# EAGLE library part ARDUINO_ICSP_HDR (library ModernDeviceOldWorkingBest)
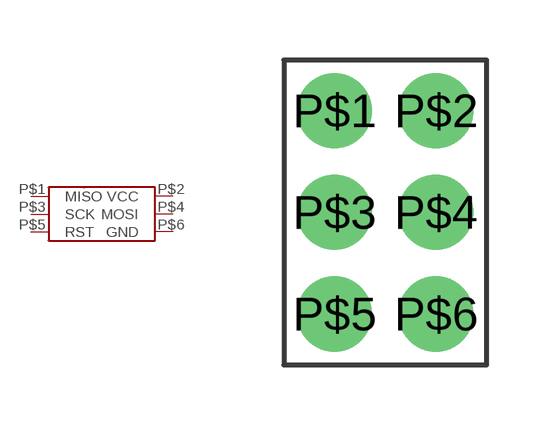
[diagram p80: symbol with the pads of ARDUINO_ICSP_HDR; footprint ARDUINO_ICSP_HDR]

Designator prefix -

## ARDUINO_ICSP_HDR  [ARDUINO_ICSP_HDR]
P$1  MISO
P$2  VCC
P$3  SCK
P$4  MOSI
P$5  RST
P$6  GND

## Footprint ARDUINO_ICSP_HDR (pad centres in mm)
drill 0.94 pad 1.88: P$1 -1.27,2.54; P$2 1.27,2.54; P$3 -1.27,0; P$4 1.27,0; P$5 -1.27,-2.54; P$6 1.27,-2.54